# Altium footprint library C1812.PcbLib: 1 footprints
Each footprint in its own frame and in the unit in brackets; x right, y up, seen from the top. Pads: shape width x height; smd on the part's side, far side on the other; paste and mask are expansions set on the pad; w line width, h text height; cw(c..) or ccw(c..) is an arc to the next point about the centre after c.
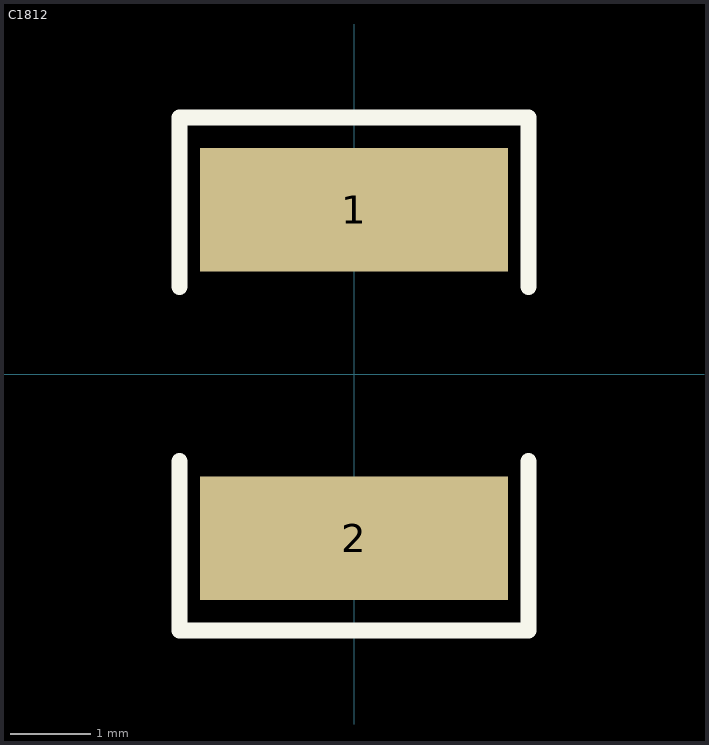
[diagram p0: the footprint, top view; thin cyan lines are the x and y axes]

## C1812 [mil]
pads (2):
  rect 150x60 smd: 1(0,80) 2(0,-80)
Top Overlay:
  lines w7.87: -85,-42.5 -85,-125 85,-125 85,-42.5 ; -85,42.5 -85,125 85,125 85,42.5
3D body: height 63.07, standoff 0, extent -62.99,-88.58 62.99,88.59